# EAGLE library part NST-28039E-001 (library X893)
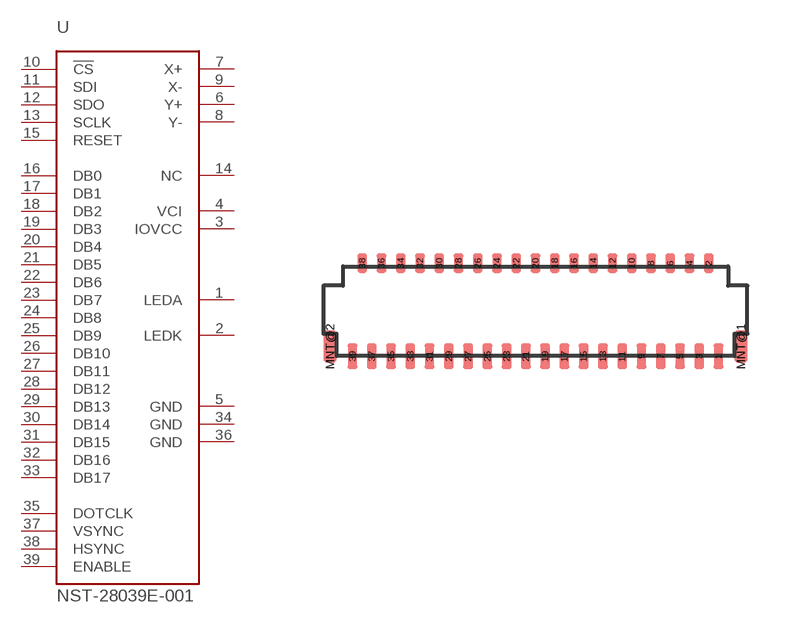
[diagram p154: symbol with the pads of FH26-39S-0.3SHW; footprint FH26-39S-0.3SHW]

Designator prefix U

## NST-28039E-001  [FH26-39S-0.3SHW]
1  LEDA  pas
2  LEDK  pas
3  IOVCC  pas
4  VCI  pas
5  GND  pwr
6  Y+  pas
7  X+  pas
8  Y-  pas
9  X-  pas
10  !CS
11  SDI
12  SDO
13  SCLK
14  NC  nc
15  RESET
16  DB0
17  DB1
18  DB2
19  DB3
20  DB4
21  DB5
22  DB6
23  DB7
24  DB8
25  DB9
26  DB10
27  DB11
28  DB12
29  DB13
30  DB14
31  DB15
32  DB16
33  DB17
34  GND  pwr
35  DOTCLK
36  GND  pwr
37  VSYNC
38  HSYNC
39  ENABLE

## Footprint FH26-39S-0.3SHW (pad centres in mm)
smd 0.3 x 0.8: 1 5.7,0.4; 3 5.1,0.4; 5 4.5,0.4; 7 3.9,0.4; 9 3.3,0.4; 11 2.7,0.4; 13 2.1,0.4; 15 1.5,0.4; 17 0.9,0.4; 19 0.3,0.4; 21 -0.3,0.4; 23 -0.9,0.4; 25 -1.5,0.4; 27 -2.1,0.4; 29 -2.7,0.4; 31 -3.3,0.4; 33 -3.9,0.4; 35 -4.5,0.4; 37 -5.1,0.4; 39 -5.7,0.4
smd 0.3 x 0.6: 2 5.4,3.3; 4 4.8,3.3; 6 4.2,3.3; 8 3.6,3.3; 10 3,3.3; 12 2.4,3.3; 14 1.8,3.3; 16 1.2,3.3; 18 0.6,3.3; 20 0,3.3; 22 -0.6,3.3; 24 -1.2,3.3; 26 -1.8,3.3; 28 -2.4,3.3; 30 -3,3.3; 32 -3.6,3.3; 34 -4.2,3.3; 36 -4.8,3.3; 38 -5.4,3.3
smd 0.4 x 1: MNT@1 6.4,0.7; MNT@2 -6.4,0.7